# Altium schematic symbol library diode.SchLib: 23 symbols
Pins are listed as number, name and electrical type; pins without a type are passive.

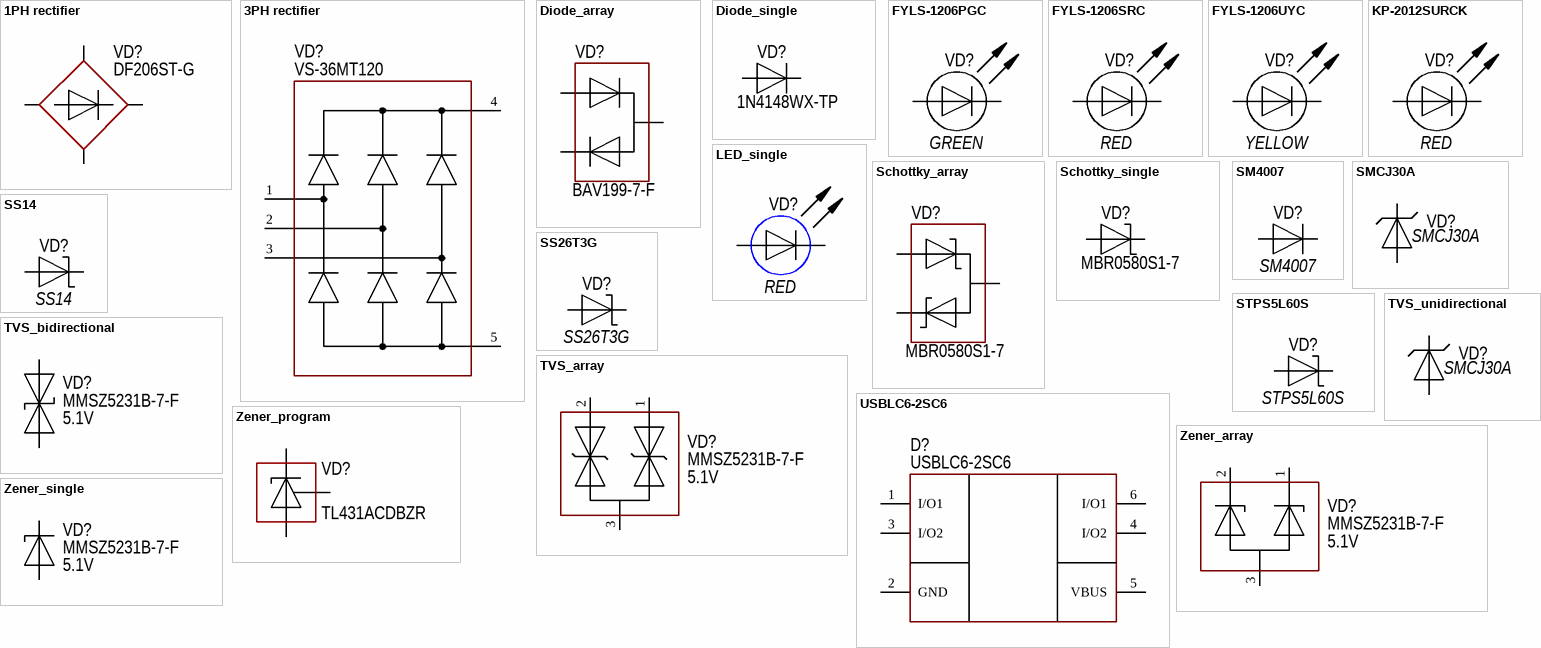
[diagram p0: symbols 1PH rectifier to Zener_single]

## 1PH rectifier
designator VD?  PartNumber: DF206ST-G
Manufacturer: Comchip Technology; ValueManufacturerPartNumber: Single phase rectifier, 600V, 2A, 1.1V, 4-SMD, -55...+150°C; TypeDiode: Single phase rectifier; Voltage: 600V; Current: 2A; VoltageDrop: 1.1V; Package: 4-SMD; HelpURL: https://www.digikey.com/product-detail/en/comchip-technology/DF206ST-G/641-1425-1-ND/2208797; Temperature: -55...+150°C
footprint DIODE: CD-MBL2
footprint DIODE: DF206S-G
footprint DIODE: GBU (SMD Diode Bridge)
footprint DIODE: KBU6M
pins: 1, 2, 3, 4

## 3PH rectifier
designator VD?  PartNumber: VS-36MT120
Manufacturer: Vishay Semiconductor; ValueManufacturerPartNumber: Three phase rectifier, 1200V, 35A, 1.19V, case D-63, -55...+150°C; TypeDiode: Three phase rectifier; Voltage: 1200V; Current: 35A; VoltageDrop: 1.19V; Package: case D-63; HelpURL: https://www.digikey.com/products/en?keywords=vs-36MT120; Temperature: -55...+150°C
footprint DIODE: VS-36MT120
pins: 1, 2, 3, 4, 5

## Diode_array
designator VD?  PartNumber: BAV199-7-F
Manufacturer: Diodes Incorporated; ValueManufacturerPartNumber: Diode array, 85V, 140mA, 1.1V, 3us, SOT-23, -65...+150°C; TypeDiode: Diode array; Voltage: 85V; Current: 140mA; VoltageDrop: 1.1V; RecoveryTime: 3us; Package: SOT-23; HelpURL: https://www.digikey.com/product-detail/en/diodes-incorporated/BAV199-7-F/BAV199-FDICT-ND/1033647; Temperature: -65...+150°C
footprint SC-70
footprint SOT23
pins: 1, 2, 3

## Diode_single
designator VD?  PartNumber: 1N4148WX-TP
Manufacturer: Micro Commercial; ValueManufacturerPartNumber: Single diode, 75V, 150mA, 1V, 4ns, SOD-323, -55...+150°C; TypeDiode: Single diode; Voltage: 75V; Current: 150mA; VoltageDrop: 1V; RecoveryTime: 4ns; Package: SOD-323; HelpURL: https://www.digikey.com/product-detail/en/micro-commercial-co/1N4148WX-TP/1N4148WXTPMSCT-ND/717312; Temperature: -55...+150°C
footprint DIODE: SMA
footprint DIODE: SMB
footprint DIODE: SMC
footprint DIODE: SOD80
footprint DIODE: SOD123
footprint DIODE: SOD123F
footprint DIODE: SOD123W
footprint DIODE: SOD323
footprint DIODE: SOD523
footprint TO220(D)
footprint TO220(DH)
footprint TO247(D) (3-Lead Plastic TO-247)
footprint DPAK (D)
pins: 1, 2

## FYLS-1206PGC
designator VD?  Color: GREEN
LED GREEN, 20mA, 1206; Manufacturer: FORYARD; ValueManufacturerPartNumber: LED GREEN, 20mA, -40...+85°C, SMD1206 (FORYARD FYLS-1206PGC); PartNumber: FYLS-1206PGC; VoltageDrop: 2.2V; Package: SMD1206; HelpURL: http://www.foryard-led.ru/pdf/fyls-1206pgc.pdf; Temperature: -40...+85°C; TypeDiode: LED; Current: 20mA; ColorParameter: GREEN
footprint LED1206 GREEN
pins: 1 A, 2 C

## FYLS-1206SRC
designator VD?  Color: RED
LED RED, 20mA, 1206; Manufacturer: FORYARD; ValueManufacturerPartNumber: LED RED, 20mA, -40...+85°C, SMD1206 (FORYARD FYLS-1206SRC); PartNumber: FYLS-1206SRC; VoltageDrop: 2.2V; Package: SMD1206; HelpURL: http://www.foryard-led.ru/pdf/fyls-1206src.pdf; Temperature: -40...+85°C; TypeDiode: LED; Current: 20mA; ColorParameter: RED
footprint LED1206 RED
pins: 1 A, 2 C

## FYLS-1206UYC
designator VD?  Color: YELLOW
LED YELLOW, 20mA, 1206; Manufacturer: FORYARD; ValueManufacturerPartNumber: LED YELLOW, 20mA, -40...+85°C, SMD1206 (FORYARD FYLS-1206UYC); PartNumber: FYLS-1206UYC; VoltageDrop: 2.2V; Package: SMD1206; HelpURL: http://www.foryard-led.ru/pdf/fyls-1206uyc.pdf; Temperature: -40...+85°C; TypeDiode: LED; Current: 20mA; ColorParameter: YELLOW
footprint LED1206 YELLOW
pins: 1 A, 2 C

## KP-2012SURCK
designator VD?  Color: RED
LED RED, 20mA, 0805; Manufacturer: KINGBRIGHT; ValueManufacturerPartNumber: LED RED, 20mA, -40...+85°C, SMD0805 (KINGBRIGHT KP-2012SURCK); PartNumber: KP-2012SURCK; VoltageDrop: 2.2V; Package: SMD0805; HelpURL: https://www.kingbright.com/attachments/file/psearch/000/00/00/KP-2012SURCK(Ver.20A).pdf; Temperature: -40...+85°C; TypeDiode: LED; Current: 20mA; ColorParameter: RED
footprint LED0805 RED
pins: 1 A, 2 C

## LED_single
designator VD?  Color: RED
LED RED, 20mA, 1206; Manufacturer: KINGBRIGHT; ValueManufacturerPartNumber: LED RED, 20mA, -40...+85°C, SMD1206 (KINGBRIGHT KP-2012SURCK); PartNumber: KP-2012SURCK; VoltageDrop: 2.2V; Package: SMD1206; HelpURL: https://www.kingbright.com/attachments/file/psearch/000/00/00/KP-2012SURCK(Ver.18A).pdf; Temperature: -40...+85°C; TypeDiode: LED; Current: 20mA; ColorParameter: RED
footprint LED1206 GREEN
footprint LED1206 RED
footprint LED1206 YELLOW
footprint LED0805 RED
pins: 1 A, 2 C

## Schottky_array
designator VD?  PartNumber: MBR0580S1-7
Manufacturer: Diodes Incorporated; ValueManufacturerPartNumber: Schottky diode, 80V, 500mA, 1V, 15pF, SOD-123, -55...+150°C; TypeDiode: Schottky diode; Voltage: 80V; Current: 500mA; VoltageDrop: 1V; RecoveryTime: 15pF; Package: SOD-123; HelpURL: https://www.digikey.com/product-detail/en/diodes-incorporated/MBR0580S1-7/MBR0580S1-7DICT-ND/5080371; Temperature: -55...+150°C
footprint SC-70
footprint SOT23
pins: 1, 2, 3

## Schottky_single
designator VD?  PartNumber: MBR0580S1-7
Manufacturer: Diodes Incorporated; ValueManufacturerPartNumber: Schottky diode, 80V, 500mA, 1V, 15pF, SOD-123, -55...+150°C; TypeDiode: Schottky diode; Voltage: 80V; Current: 500mA; VoltageDrop: 1V; RecoveryTime: 15pF; Package: SOD-123; HelpURL: https://www.digikey.com/product-detail/en/diodes-incorporated/MBR0580S1-7/MBR0580S1-7DICT-ND/5080371; Temperature: -55...+150°C
footprint DIODE: SMA
footprint DIODE: SMB
footprint DIODE: SMC
footprint DIODE: SOD80
footprint DIODE: SOD123
footprint DIODE: SOD123F
footprint DIODE: SOD123W
footprint DIODE: SOD323
footprint DIODE: SOD523
footprint TO220(D)
footprint TO220(DH)
footprint TO247(D) (3-Lead Plastic TO-247)
footprint DPAK (D)
pins: 1, 2

## SM4007
designator VD?  PartNumber: SM4007
Standard Recovery Rectifier, 1000V, 1.0A, Melf; Manufacturer: Diotec Semiconductor; ValueManufacturerPartNumber: Single diode, 1000V, 1000mA, 1.1V, , DO-213AB/Melf, -55...+150°C (Diotec Semiconductor SM4007); TypeDiode: Single diode; Current: 1000mA; VoltageDrop: 1.1V; Package: DO-213AB/Melf; HelpURL: https://diotec.com/en/product/SM4007.html; Temperature: -55...+150°C; Voltage: 1000V
footprint MELF (DO-213AB) (MELF Diode, 2-Leads, Body 5,01x2,53mm, IPC Medium Density)
pins: 1 A "Anode", 2 C "Cathode"

## SMCJ30A
designator VD?  PartNumber: SMCJ30A
TVS, 30V stand-off, 1500 W, SMC; Manufacturer: ST; ValueManufacturerPartNumber: TVS unidirectional 1500W 30V SMC (ST SMCJ30A); TypeDiode: TVS unidirectional; PeakPulsePower: 1500W; Package: SMC; HelpURL: https://www.st.com/en/protection-devices/smcj30a.html; Temperature: -55...+150°C; Voltage: 30V
footprint SMC(DO-214AB)
pins: 1 A, 2 C

## SS14
designator VD?  PartNumber: SS14
Schottky Power Rectifier, 40V, 1.0A, SMA; Manufacturer: DC COMPONENTS; ValueManufacturerPartNumber: Schottky diode, 40V, 1.0A, 0.55V, 110pF, SMA, -55...+125°C (DC COMPONENTS SS14); TypeDiode: Schottky diode; VoltageDrop: 0.55V; RecoveryTime: 110pF; Package: SMA; HelpURL: https://dccomponents.com/upload/product/original/183635552545.pdf; Temperature: -55...+125°C; Voltage: 40V; Current: 1.0A
footprint SMA(DO-214AC)
pins: 1, 2

## SS26T3G
designator VD?  PartNumber: SS26T3G
Schottky Power Rectifier, 60V, 2.0A, SMB; Manufacturer: ON Semiconductor; ValueManufacturerPartNumber: Schottky diode, 60V, 2.0A, 0.63V, 70pF, SMB, -55...+150°C (ON Semiconductor SS26T3G); TypeDiode: Schottky diode; VoltageDrop: 0.63V; RecoveryTime: 70pF; Package: SMB; HelpURL: https://www.onsemi.com/pdf/datasheet/ss26-d.pdf; Temperature: -55...+150°C; Voltage: 60V; Current: 2.0A
footprint SMB(DO-214AA)
pins: 1, 2

## STPS5L60S
designator VD?  PartNumber: STPS5L60S
Schottky Power Rectifier, 60V, 5.0A, SMC; Manufacturer: ST Microelectronics; ValueManufacturerPartNumber: Schottky diode, 60V, 5.0A, 0.55V, 700pF, SMC, -55...+150°C (ST Microelectronics STPS5L60S); TypeDiode: Schottky diode; VoltageDrop: 0.55V; RecoveryTime: 700pF; Package: SMC; HelpURL: https://www.st.com/resource/en/datasheet/stps5l60.pdf; Temperature: -55...+150°C; Voltage: 60V; Current: 5.0A
footprint SMC(DO-214AB)
pins: 1, 2

## TVS_array
designator VD?  Voltage: 5.1V  PartNumber: MMSZ5231B-7-F
Manufacturer: Diodes Incorporated; ValueManufacturerPartNumber: Zener diode, 5.1V, 500mW, 0.9V, 17Ohm, SOD-123, -55...+150°C; TypeDiode: Zener diode; Current: 500mW; VoltageDrop: 0.9V; RecoveryTime: 17Ohm; Package: SOD-123; HelpURL: https://www.digikey.com/product-detail/en/diodes-incorporated/MMSZ5231B-7-F/MMSZ5231B-FDICT-ND/755506; Temperature: -55...+150°C
footprint SC-70
footprint SOT23
pins: 1, 2, 3

## TVS_bidirectional
designator VD?  Voltage: 5.1V  PartNumber: MMSZ5231B-7-F
Manufacturer: Diodes Incorporated; TypeDiode: Zener diode; Current: 500mW; VoltageDrop: 0.9V; RecoveryTime: 17Ohm; Package: SOD-123; HelpURL: https://www.digikey.com/product-detail/en/diodes-incorporated/MMSZ5231B-7-F/MMSZ5231B-FDICT-ND/755506; ValueManufacturerPartNumber: =TypeDiode+' '+PeakPulsePower+' '+Package+'. '+Manufacturer+' '+PartNumber; Temperature: -55...+150°C
footprint DIODE: SMA
footprint DIODE: SMB (Footprint not found)
footprint DIODE: SMC (Footprint not found)
footprint DIODE: SOD80
footprint DIODE: SOD123
footprint DIODE: SOD123F
footprint DIODE: SOD123W
footprint DIODE: SOD323
footprint DIODE: SOD523
pins: 1 A, 2 C

## TVS_unidirectional
designator VD?  PartNumber: SMCJ30A
Manufacturer: ST; TypeDiode: TVS unidirectional; PeakPulsePower: 1500W; Voltage: 30V; Package: SMC; HelpURL: https://www.st.com/en/protection-devices/smcj33a.html; Temperature: -55...+150°C; ValueManufacturerPartNumber: =TypeDiode+' '+PeakPulsePower+' '+Package=TypeResistor+' '+MaxCurrent+' '+Package+'. '+Value+' '+Tolerance+' ('+Manufacturer+' '+PartNumber+')'
footprint DIODE: SMA
footprint DIODE: SMB
footprint DIODE: SMC
footprint DIODE: SOD80
footprint DIODE: SOD123
footprint DIODE: SOD123F
footprint DIODE: SOD123W
footprint DIODE: SOD323
footprint DIODE: SOD523
pins: 1 A, 2 C

## USBLC6-2SC6
designator D?  PartNumber: USBLC6-2SC6
Manufacturer: STMicroelectronics; TypeDiode: USB protection; Current: 5A peak; VoltageDrop: 17V; RecoveryTime: Power line; Package: SOT-23-6; HelpURL: https://www.digikey.com/product-detail/en/stmicroelectronics/USBLC6-2SC6/497-5235-1-ND/1121688; ValueManufacturerPartNumber: =TypeDiode+', '+Voltage+', '+Current+', '+VoltageDrop+', '+RecoveryTime+', '+Package+', '+Temperature=TypeResistor+' '+MaxCurrent+' '+Package+'. '+Value+' '+Tolerance+' ('+Manufacturer+' '+PartNumber+')'; Temperature: -40...+125°C
footprint SOT23-6 (pitch 0.95 mm)
pins: 1 I/O1, 2 GND, 3 I/O2, 4 I/O2, 5 VBUS, 6 I/O1

## Zener_array
designator VD?  Voltage: 5.1V  PartNumber: MMSZ5231B-7-F
Manufacturer: Diodes Incorporated; ValueManufacturerPartNumber: Zener diode, 5.1V, 500mW, 0.9V, 17Ohm, SOD-123, -55...+150°C; TypeDiode: Zener diode; Current: 500mW; VoltageDrop: 0.9V; RecoveryTime: 17Ohm; Package: SOD-123; HelpURL: https://www.digikey.com/product-detail/en/diodes-incorporated/MMSZ5231B-7-F/MMSZ5231B-FDICT-ND/755506; Temperature: -55...+150°C
footprint SC-70
footprint SOT23
pins: 1, 2, 3

## Zener_program
designator VD?  PartNumber: TL431ACDBZR
Manufacturer: Texas Instruments; ValueManufacturerPartNumber: Program zener diode, 36V, 100mA, 2.495V, ±1%, SOT-23, 0...+70°C; TypeDiode: Program zener diode; Current: 100mA; VoltageDrop: 2.495V; Tolerance: ±1%; Voltage: 36V; Package: SOT-23; HelpURL: https://www.digikey.com/product-detail/en/texas-instruments/TL431ACDBZR/296-17328-1-ND/686884; Temperature: 0...+70°C
footprint SOT23
pins: 1, 2, 3

## Zener_single
designator VD?  Voltage: 5.1V  PartNumber: MMSZ5231B-7-F
Manufacturer: Diodes Incorporated; ValueManufacturerPartNumber: Zener diode 5.1V, 500mW SOD-123. Diodes Incorporated MMSZ5231B-7-F; TypeDiode: Zener diode; Current: 500mW; VoltageDrop: 0.9V; RecoveryTime: 17Ohm; Package: SOD-123; HelpURL: https://www.digikey.com/product-detail/en/diodes-incorporated/MMSZ5231B-7-F/MMSZ5231B-FDICT-ND/755506; Temperature: -55...+150°C
footprint DIODE: SMA
footprint DIODE: SMB
footprint DIODE: SMC
footprint DIODE: SOD80
footprint DIODE: SOD123
footprint DIODE: SOD123F
footprint DIODE: SOD123W
footprint DIODE: SOD323
footprint DIODE: SOD523
pins: 1 A, 2 C